# EAGLE library part TPD2S017DBVR (library TPD2S017DBVR)
2-CHANNEL ULTRA-LOW CLAMP VOLTAGE ESD SOLUTION WITH SERIES-RESISTOR ISOLATION
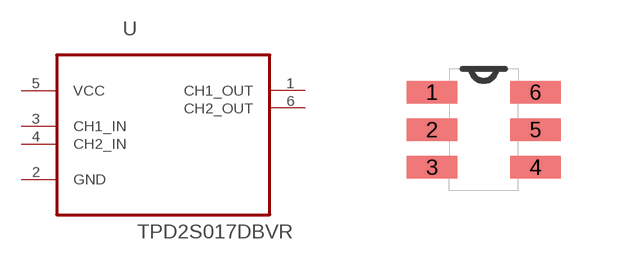
[diagram p0: symbol with the pads of SOT95P280X145-6N; footprint SOT95P280X145-6N]

Designator prefix U

## TPD2S017DBVR (Description: 2-Channel Ultra Low Clamp Voltage ESD Solution with Series-Resistor Isolation 6-SOT-23 -40 to 85; Digi-Key_Part_Number: 296-25216-1-ND; Digi-Key_Purchase_URL: https://www.digikey.com/product-detail/en/texas-instruments/TPD2S017DBVR/296-25216-1-ND/2172703?utm_source=snapeda&utm_medium=aggregator&utm_campaign=symbol; MF: Texas Instruments; MP: TPD2S017DBVR; Package: SOT-23-6 Texas Instruments)  [SOT95P280X145-6N]
1  CH1_OUT  out
2  GND  pas
3  CH1_IN  in
4  CH2_IN  in
5  VCC  pwr
6  CH2_OUT  out

## Footprint SOT95P280X145-6N (pad centres in mm)
smd 1.27 x 0.559: 1 -1.295,0.94; 2 -1.295,0; 3 -1.295,-0.94; 4 1.295,-0.94; 5 1.295,0; 6 1.295,0.94